# Altium schematic symbol library RCH875NP-2R2M.SchLib: 1 symbol
Pins are listed as number, name and electrical type; pins without a type are passive.

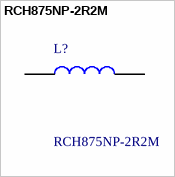
[diagram p0: symbol RCH875NP-2R2M]

## RCH875NP-2R2M
designator L?
Power Inductors - Leaded 2.2uH 3A 20% THRU HOLE INDUCTOR; Manufacturer_Name: Sumida; Geometry.Height: 7.5mm; Mouser Part Number: 851-RCH875NP-2R2M; Mouser Price/Stock: https://www.mouser.co.uk/ProductDetail/Sumida/RCH875NP-2R2M?qs=LKl%2FVGYbYthn8bnN%2FMKPbw%3D%3D; Manufacturer_Part_Number: RCH875NP-2R2M; Datasheet Link: https://products.sumida.com/products/pdf/RCH-875.pdf
footprint RCH875NP2R2M
pins: 1, 2